# Altium footprint library 超实用封装库(专用C).PcbLib: 106 footprints (part 4 of 7)
Each footprint in its own frame and in the unit in brackets; x right, y up, seen from the top. Pads: shape width x height; smd on the part's side, far side on the other; paste and mask are expansions set on the pad; w line width, h text height; cw(c..) or ccw(c..) is an arc to the next point about the centre after c.
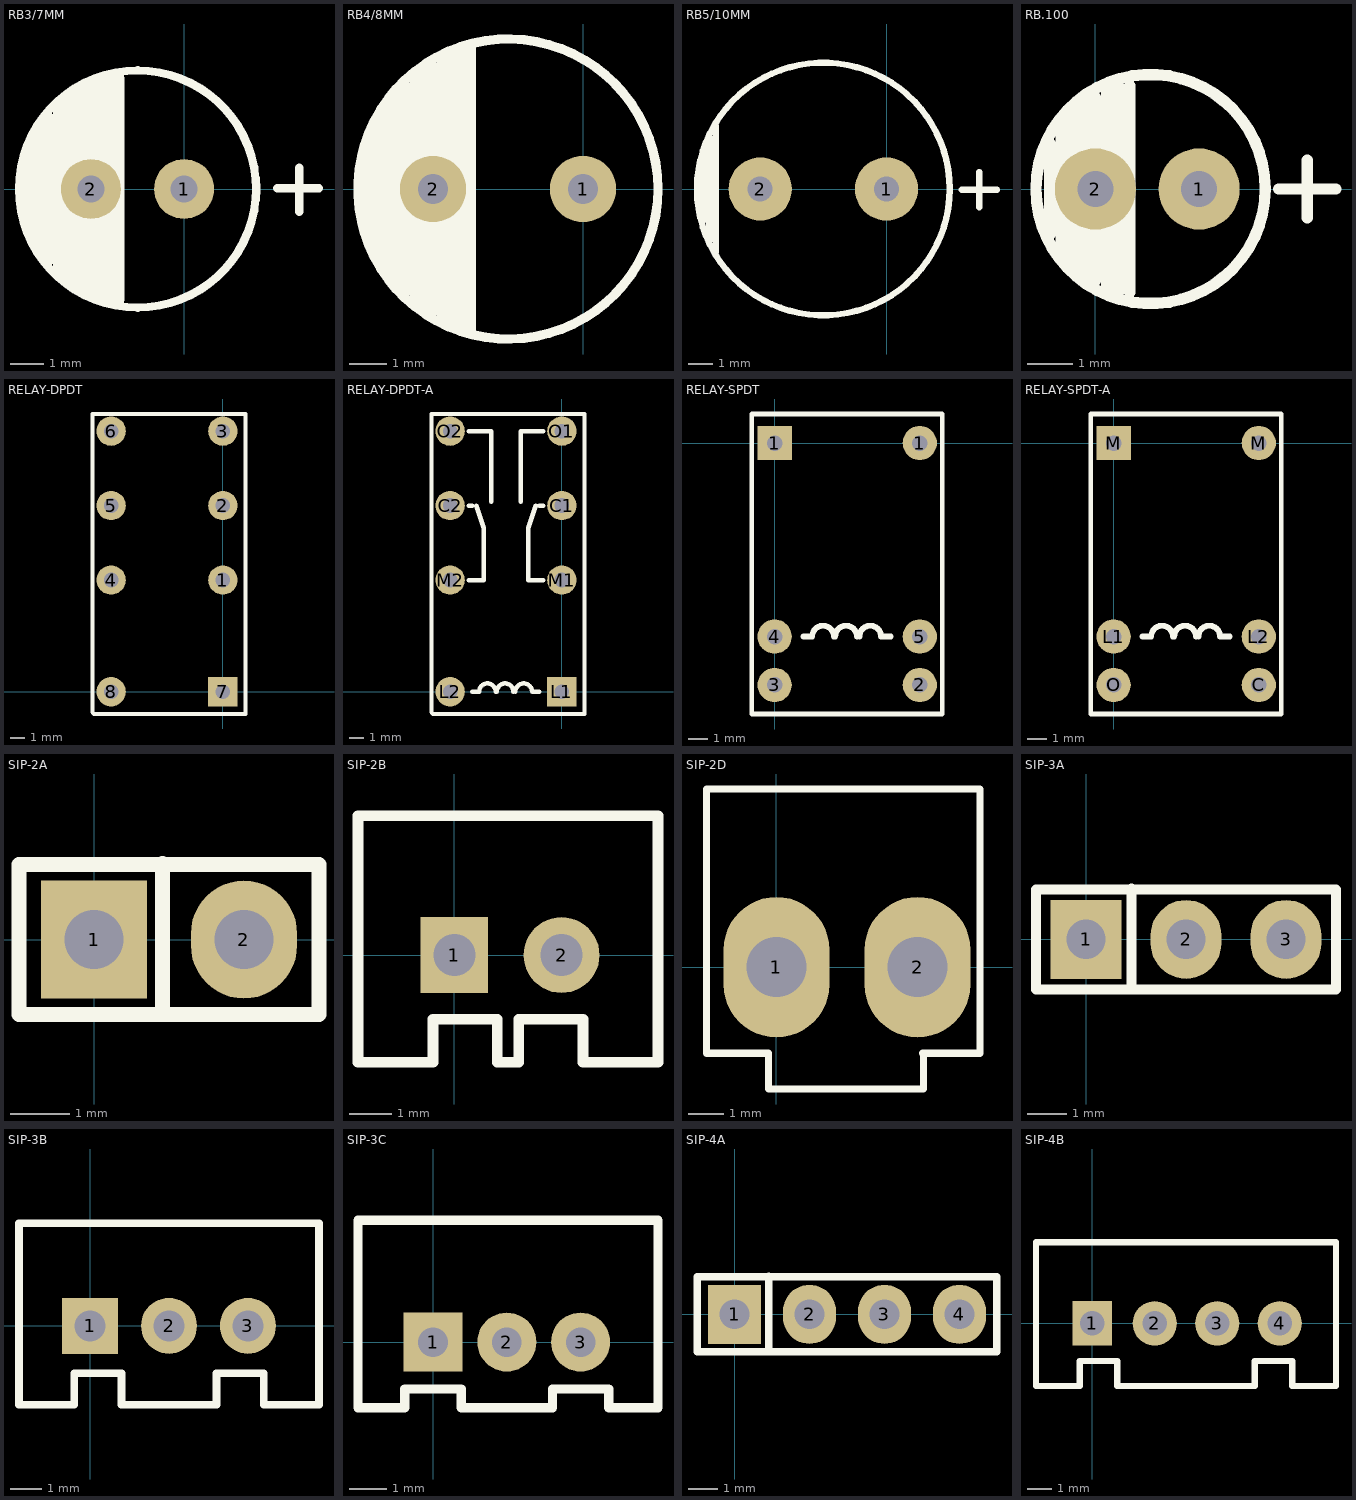
[diagram p3: the footprints below, top view; thin cyan lines are the x and y axes]

## RB3/7MM [mm]
pads (2):
  round 1.8 hole 0.8: 1(0,0) 2(-2.794,0)
TopOverlay:
  circle w0.254: c-1.397,0 r3.556
  lines w0.254: -3.81,-2.54 -3.81,2.54 ; -3.556,-2.794 -3.556,2.794 ; -3.048,-3.048 -3.048,3.048 ; -2.286,-3.302 -2.286,3.302 ; 2.794,0.016 4.048,0.016 ; 3.454,-0.686 3.454,0.635
  lines w0.3: -4.826,-0.762 -4.826,0.762 ; -4.572,-1.524 -4.572,1.524 ; -4.318,-1.778 -4.318,1.778 ; -2.54,-3.302 -2.54,3.302
  lines w0.5: -4.064,-2.032 -4.064,2.032 ; -3.302,-2.794 -3.302,2.794 ; -2.794,-3.048 -2.794,3.048 ; -2.032,-3.302 -2.032,3.302

## RB4/8MM [mm]
pads (2):
  round 1.8 hole 0.8: 1(0,0) 2(-4.064,0)
TopOverlay:
  circle w0.254: c-2.032,0 r4.064
  lines w0.254: -5.08,-2.54 -5.08,2.54 ; -4.572,-3.048 -4.572,3.048
  lines w0.3: -5.842,-1.27 -5.842,1.27 ; -5.588,-1.778 -5.588,1.778 ; -5.334,-2.286 -5.334,2.286 ; -4.826,-2.794 -4.826,2.794 ; -4.318,-3.302 -4.318,3.302 ; -4.064,-3.302 -4.064,3.302 ; -3.81,-3.556 -3.81,3.556 ; -3.556,-3.556 -3.556,3.556 ; -3.302,-3.81 -3.302,3.81 ; -3.048,-3.81 -3.048,3.81

## RB5/10MM [mm]
pads (2):
  round 2.54 hole 1: 1(0,0) 2(-5.08,0)
TopOverlay:
  circle w0.254: c-2.54,0 r5.08
  lines w0.254: -7.366,-1.27 -7.366,1.524 ; -6.858,-2.54 -6.858,2.54 ; 3.023,-0.025 4.442,-0.025 ; 3.734,-0.737 3.734,0.686
  lines w0.305: -7.112,-2.032 -7.112,2.032

## RB.100 [mm]
pads (2):
  round 1.8 hole 0.8: 1(2.3,0) 2(0,0)
TopOverlay:
  circle w0.254: c1.224,0 r2.54
  lines w0.254: -1.016,-1.016 -1.016,1.016 ; -0.762,-1.524 -0.762,1.524 ; -0.508,-1.778 -0.508,1.778 ; -0.254,-2.032 -0.254,2.032 ; 0,-2.032 0,2.032 ; 0.254,-2.286 0.254,2.286 ; 0.508,-2.286 0.508,2.286 ; 0.762,-2.286 0.762,2.286 ; 4.064,0 5.334,0 ; 4.699,-0.635 4.699,0.635

## RELAY-DPDT [mm]
pads (8):
  round 2 hole 1: 1(0,7.62) 2(0,12.7) 3(0,17.78) 4(-7.62,7.62) 5(-7.62,12.7) 6(-7.62,17.78) 8(-7.62,0)
  rect 2x2 hole 1: 7(0,0)
TopOverlay:
  lines w0.3: -8.894,-1.414 -8.894,18.948 1.52,18.948 1.55,18.918 1.55,18.41 1.55,-1.52 -8.45,-1.52 -8.788,-1.52

## RELAY-DPDT-A [mm]
pads (8):
  round 2 hole 1: C1(0,12.7) C2(-7.62,12.7) L2(-7.62,0) M1(0,7.62) M2(-7.62,7.62) O1(0,17.78) O2(-7.62,17.78)
  rect 2x2 hole 1: L1(0,0)
TopOverlay:
  lines w0.3: -8.894,-1.414 -8.894,18.948 1.52,18.948 1.55,18.918 1.55,18.41 1.55,-1.52 -8.45,-1.52 -8.788,-1.52
  lines w0.305: -6.35,7.62 -5.334,7.62 -5.334,11.176 -5.842,12.7 ; -6.35,12.7 -6.096,12.7 ; -6.35,17.78 -4.826,17.78 -4.826,12.954 ; -6.096,0 -5.648,0 cw(c-5.08,0) -4.512,0 ; -4.438,0 cw(c-3.87,0) -3.302,0 ; -3.168,0 cw(c-2.6,0) -2.032,0 -1.524,0 ; -2.794,12.954 -2.794,17.78 -1.27,17.78 ; -1.778,12.7 -2.286,11.176 -2.286,7.62 -1.27,7.62 ; -1.524,12.7 -1.27,12.7

## RELAY-SPDT [mm]
pads (6):
  rect 1.8x1.8 hole 0.813: 1(0,0)
  round 1.8 hole 0.813: 1(7.62,0) 2(7.62,-12.7) 3(0,-12.7) 4(0,-10.16) 5(7.62,-10.16)
TopOverlay:
  lines w0.254: -1.2,-14.224 -1.2,1.524 8.8,1.524 8.8,-14.224 -1.2,-14.224
  lines w0.305: 1.524,-10.16 1.972,-10.16 cw(c2.54,-10.16) 3.108,-10.16 ; 3.182,-10.16 cw(c3.75,-10.16) 4.318,-10.16 ; 4.452,-10.16 cw(c5.02,-10.16) 5.588,-10.16 6.096,-10.16

## RELAY-SPDT-A [mm]
pads (6):
  round 1.8 hole 0.813: C(7.62,-12.7) L1(0,-10.16) L2(7.62,-10.16) M(7.62,0) O(0,-12.7)
  rect 1.8x1.8 hole 0.813: M(0,0)
TopOverlay:
  lines w0.254: -1.2,-14.224 8.8,-14.224 8.8,1.524 -1.2,1.524 -1.2,-14.224
  lines w0.305: 1.524,-10.16 1.972,-10.16 cw(c2.54,-10.16) 3.108,-10.16 ; 3.182,-10.16 cw(c3.75,-10.16) 4.318,-10.16 ; 4.452,-10.16 cw(c5.02,-10.16) 5.588,-10.16 6.096,-10.16

## SIP-2A [mm]
pads (2):
  rect 1.8x2 hole 1: 1(0,0)
  oval 1.8x2 hole 1: 2(2.54,0)
TopOverlay:
  lines w0.254: 1.16,-1.25 1.16,1.29 ; -1.27,-1.27 -1.27,1.27 3.81,1.27 3.81,-1.27 -1.27,-1.27

## SIP-2B [mm]
pads (2):
  rect 1.6x1.8 hole 1: 1(0,0)
  round 1.8 hole 1: 2(2.54,0)
TopOverlay:
  lines w0.254: -2.286,-2.54 -2.286,3.302 4.826,3.302 4.826,-2.54 3.048,-2.54 3.048,-1.524 1.524,-1.524 1.524,-2.54 1.016,-2.54 1.016,-1.524 -0.508,-1.524 -0.508,-2.54 -2.286,-2.54

## SIP-2D [mil]
pads (2):
  oval 118x157 hole 67: 1(0,0) 2(157.48,0)
TopOverlay:
  lines w8: -78,199 -78,-96 -9,-96 -9,-136 164.08,-136 164.08,-96 ; -76,199 227.08,199 227.08,-96 163.08,-96

## SIP-3A [mm]
pads (3):
  rect 1.8x2 hole 1: 1(0,0)
  oval 1.8x2 hole 1: 2(2.54,0) 3(5.08,0)
TopOverlay:
  lines w0.254: 1.16,-1.25 1.16,1.29 ; -1.27,-1.27 6.35,-1.27 6.35,1.27 -1.27,1.27 -1.27,-1.27

## SIP-3B [mm]
pads (3):
  rect 1.8x1.8 hole 1: 1(0,0)
  round 1.8 hole 1: 2(2.54,0) 3(5.08,0)
TopOverlay:
  lines w0.254: -2.286,-2.54 -0.508,-2.54 -0.508,-1.524 1.016,-1.524 1.016,-2.54 4.064,-2.54 4.064,-1.524 5.588,-1.524 5.588,-2.54 7.366,-2.54 7.366,3.302 -2.286,3.302 -2.286,-2.54

## SIP-3C [mm]
pads (3):
  rect 1.6x1.6 hole 0.8: 1(0,0)
  round 1.6 hole 0.8: 2(2,0) 3(4,0)
TopOverlay:
  lines w0.254: -2.032,-1.778 -2.032,3.302 6.096,3.302 6.096,-1.778 4.762,-1.778 4.762,-1.27 3.238,-1.27 3.238,-1.778 0.762,-1.778 0.762,-1.27 -0.762,-1.27 -0.762,-1.778 -2.032,-1.778

## SIP-4A [mm]
pads (4):
  rect 1.8x2 hole 1: 1(0,0)
  oval 1.8x2 hole 1: 2(2.54,0) 3(5.08,0) 4(7.62,0)
TopOverlay:
  lines w0.254: 1.16,-1.25 1.16,1.29 ; -1.27,-1.27 8.89,-1.27 8.89,1.27 -1.27,1.27 -1.27,-1.27

## SIP-4B [mm]
pads (4):
  rect 1.6x1.8 hole 1: 1(0,0)
  round 1.8 hole 1: 2(2.54,0) 3(5.08,0) 4(7.62,0)
TopOverlay:
  lines w0.254: -2.286,-2.54 -0.508,-2.54 -0.508,-1.524 1.016,-1.524 1.016,-2.54 6.604,-2.54 6.604,-1.524 8.128,-1.524 8.128,-2.54 9.906,-2.54 9.906,3.302 -2.286,3.302 -2.286,-2.54